# Altium footprint library hi3516dv100.PcbLib: 78 footprints (part 5 of 5)
Each footprint in its own frame and in the unit in brackets; x right, y up, seen from the top. Pads: shape width x height; smd on the part's side, far side on the other; paste and mask are expansions set on the pad; w line width, h text height; cw(c..) or ccw(c..) is an arc to the next point about the centre after c.
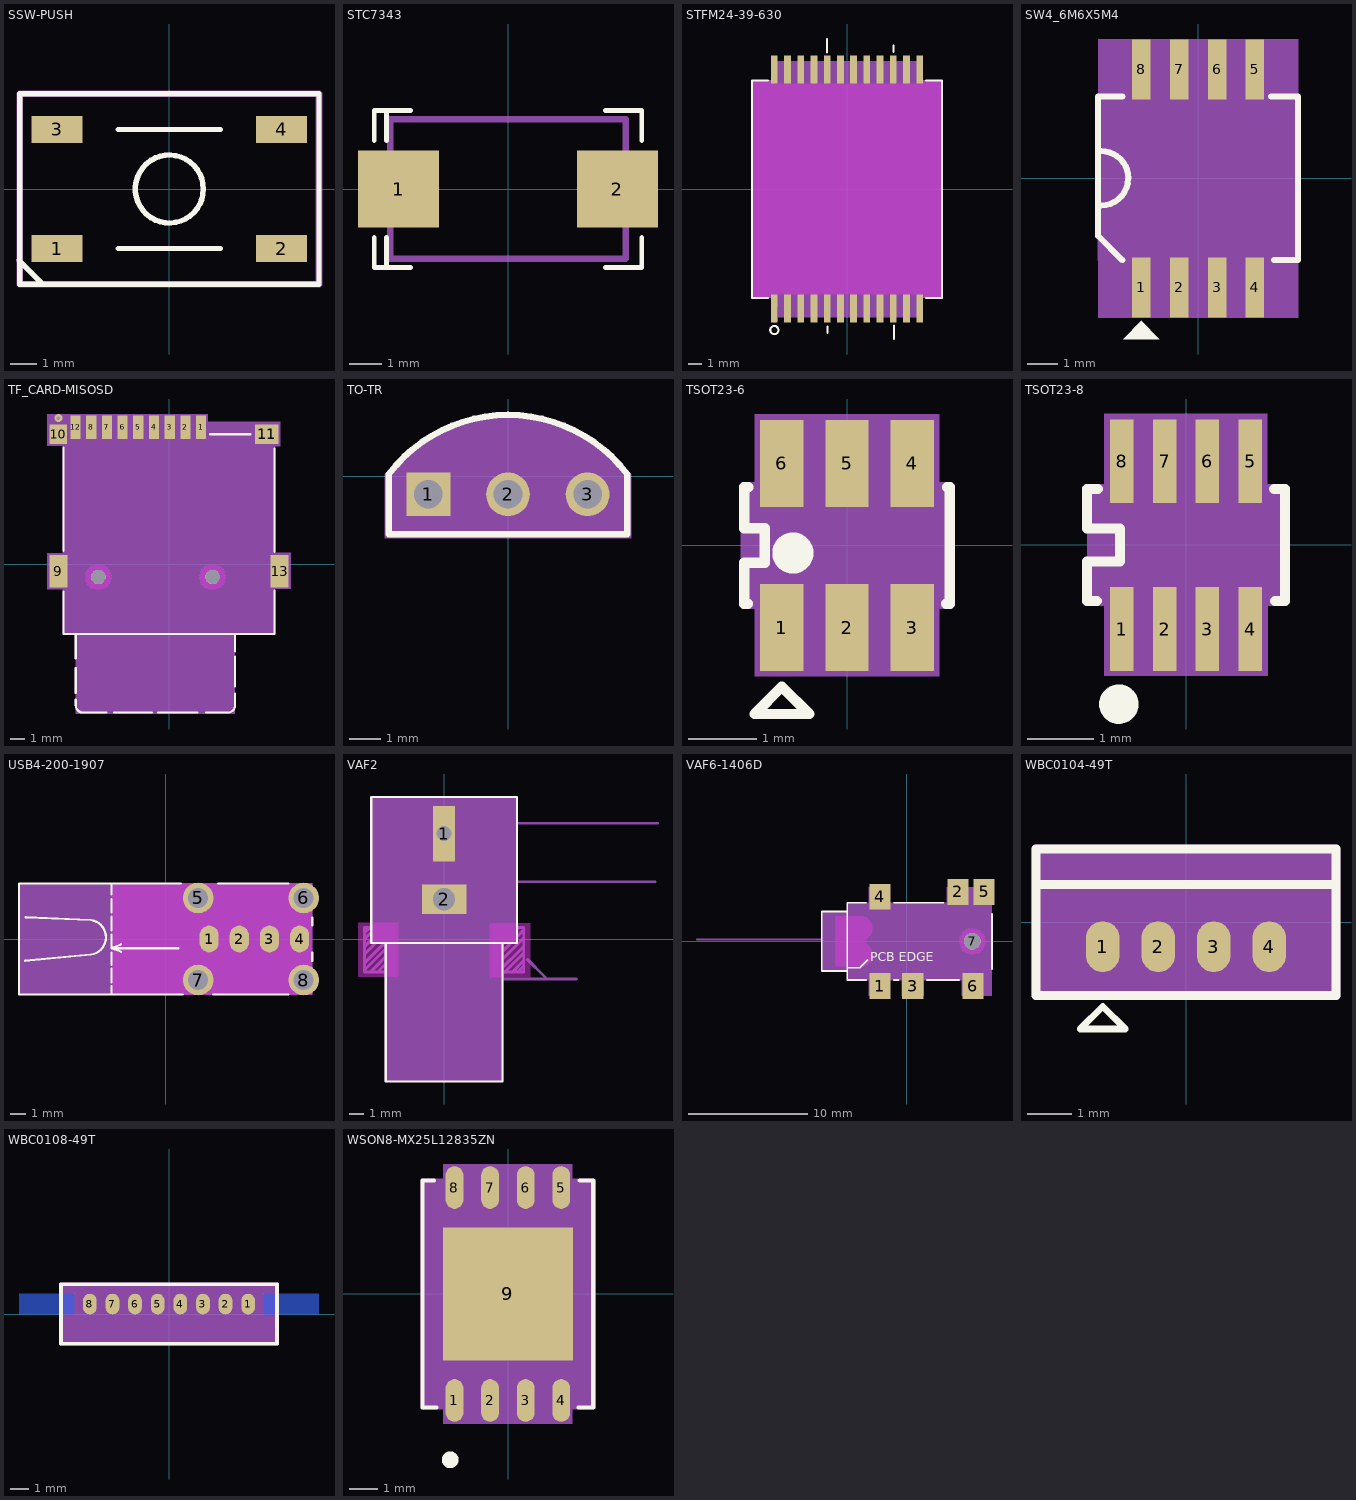
[diagram p4: the footprints below, top view; thin cyan lines are the x and y axes]

## SSW-PUSH [mil] "SSW-PUSH"
pads (4):
  rect 75x40 smd: 1(-165,-87.5) 2(165,-87.5) 3(-165,87.5) 4(165,87.5)
Top Overlay:
  circle w8: c0,0 r50
  lines w8: -221,-105 -187,-139 ; -75,-87.5 75,-87.5 ; -75,87.5 75,87.5 ; -220,-140 -220,140 220,140 220,-140 -220,-140
Mechanical 7:
  lines w1: -220,-140 220,-140 220,140 -220,140 -220,-140
  lines w10: -220,-140 -220,140 220,140 220,-140 -220,-140
Mechanical 12:
  text "4" at 161,87.5 h10
  text "3" at -169,87.5 h10
  text "1" at -169,-87.5 h10
  text "2" at 161,-87.5 h10
Mechanical 15:
  lines w1: -220,-140 220,-140 220,140 -220,140 -220,-140

## STC7343 [mil] "STC7343"
pads (2):
  rect 100x95 smd: 1(-135,0) 2(135,0)
Top Overlay:
  lines w6: -165,-60 -165,-97 -120,-97 ; -165,60 -165,97 -120,97 ; -150,-97 -150,-60 ; -150,60 -150,97 ; 120,-97 165,-97 165,-60 ; 120,97 165,97 165,60
Mechanical 7:
  lines w1: -145,-86 -145,86 145,86 145,-86 -145,-86
  lines w8: -145,-86 145,-86 145,86 -145,86 -145,-86

## STFM24-39-630 [mil] "STFM24-39-630"
pads (24):
  rect 20x82 smd: 1(-214.37,-351.68) 2(-175.39,-351.68) 3(-136.42,-351.68) 4(-97.44,-351.68) 5(-58.46,-351.68) 6(-19.49,-351.68) 7(19.49,-351.68) 8(58.46,-351.68) 9(97.44,-351.68) 10(136.42,-351.68) 11(175.39,-351.68) 12(214.37,-351.68) 13(214.37,351.68) 14(175.39,351.68) 15(136.42,351.68) 16(97.44,351.68) 17(58.46,351.68) 18(19.49,351.68) 19(-19.49,351.68) 20(-58.46,351.68) 21(-97.44,351.68) 22(-136.42,351.68) 23(-175.39,351.68) 24(-214.37,351.68)
Top Layer:
  lines w20: -214.37,-382.68 -214.37,-351.68
Top Layer keep-out:
  region: -279.53,-319.96 -279.53,319.96 -226,319.96 -226,310 226,310 226,320 226.04,319.96 228,319.96 279.53,319.96 279.53,-319.96 226,-319.96 226,-310 -226,-310 -226,-319.96
Top Overlay:
  circle w6: c-214,-415 r12
  lines w6: -233.37,-319.96 -279.53,-319.96 -279.53,319.96 -233.37,319.96 ; -59,402.64 -59,442 ; -58,-423.68 -58,-404 ; 137,403.32 137,423 ; 138,-441.36 138,-402 ; 233.37,-319.96 279.53,-319.96 279.53,319.96 233.37,319.96
Mechanical 7:
  region: -279.53,-319.96 -279.53,319.96 -222.44,319.96 -222.44,376.97 222.44,376.97 222.44,319.96 279.53,319.96 279.53,-319.96 222.44,-319.96 222.44,-376.97 -222.44,-376.97 -222.44,-319.96
Mechanical 255:
  lines w3: -25,0 25,0 ; 0,-25 0,25
3D body: height 150, standoff 0, extent -279.53,-376.97 279.53,376.97

## SW4_6M6X5M4 [mil] "SW4_6M6X5M4"
pads (8):
  rect 24x78 smd: 1(-73.82,-141.73) 2(-24.61,-141.73) 3(24.61,-141.73) 4(73.82,-141.73) 5(73.82,141.73) 6(24.61,141.73) 7(-24.61,141.73) 8(-73.82,141.73)
Top Overlay:
  dashed: -73.82,-185.04 -97.44,-208.66 -50.2,-208.66
  lines w7.87: -125.98,-35.12 ccw(c-125.99,0) -90.87,-0.31 ; -125.98,35.43 cw(c-125.98,0) -90.55,0 ; -98.43,-106.3 -129.92,-74.8 -129.92,90.55 -129.92,106.3 -98.43,106.3 ; 94.49,106.3 129.92,106.3 129.92,90.55 129.92,-106.3 98.43,-106.3
Mechanical 7:
  region: -129.92,-181.1 129.92,-181.1 129.92,181.1 -129.92,181.1
Mechanical 13:
  dashed: -129.92,-106.3 -129.92,-31.5 -55.12,-106.3
  lines w1: -129.92,-106.3 129.92,-106.3 129.92,106.3 -129.92,106.3 -129.92,-106.3
3D body: height 150, standoff 0, extent -129.92,-181.1 129.92,181.1

## TF_CARD-MISOSD [mil] "TF_CARD-MISOSD"
pads (15):
  rect 28x65 smd: 1(88.58,377.56) 2(45.28,377.56) 3(1.97,377.56) 4(-41.34,377.56) 5(-84.65,377.56) 6(-127.95,377.56) 7(-171.26,377.56) 8(-214.57,377.56) 12(-257.87,377.56)
  rect 50x90 smd: 9(-305.12,-20.08) 13(305.12,-20.08)
  rect 48x55 smd: 10(-305.12,357.87)
  rect 65x55 smd: 11(269.69,357.87)
  round 40 hole 40 unplated: ""(-194.88,-35.83) ""(120.08,-35.83)
via -305.12,402.37 diameter 22 hole 10
Top Overlay:
  lines w6: -291.34,-76.77 -291.34,-193.31 291.34,-193.31 291.34,-72.84 ; -291.34,36.61 -291.34,320.86 ; -257.09,-374.41 -257.09,-390.16 ccw(c-237.4,-390.16) -237.4,-409.85 -172.05,-409.85 ; -257.09,-355.12 -257.09,-287.4 ; -257.09,-261.03 -257.09,-193.31 ; -151.57,-409.85 -46.46,-409.85 ; -29.53,-409.85 77.95,-409.85 ; 101.97,-409.85 162.6,-409.85 ccw(c162.59,-390.16) 182.28,-390.16 182.28,-357.48 ; 113.78,357.87 224.41,357.87 ; 182.28,-338.19 182.28,-255.91 ; 182.28,-240.55 182.28,-193.31 ; 291.34,33.46 291.34,318.89
Mechanical 7:
  region: -335.83,413.78 -335.83,325.59 -292.13,325.59 -292.13,29.13 -335.83,29.13 -335.83,-69.29 -290.55,-69.29 -290.55,-193.31 -257.87,-193.31 -257.87,-413.78 181.5,-413.78 181.5,-193.7 292.13,-193.7 292.13,-68.9 335.83,-68.9 335.83,31.49 291.73,31.49 291.73,325.19 306.3,325.19 306.3,391.73 107.09,391.73 107.09,413.78
Mechanical 12:
  text "2" at 45.28,369.56 h20
  text "1" at 88.58,369.56 h20
  text "8" at -214.57,369.56 h20
  text "7" at -171.26,369.56 h20
  text "3" at 1.97,369.56 h20
  text "5" at -84.65,369.56 h20
  text "12" at -257.87,361.56 h20
  text "4" at -41.34,369.56 h20
  text "13" at 305.12,-36.08 h20
  text "6" at -127.95,369.56 h20
  text "10" at -305.12,341.87 h20
  text "11" at 269.69,341.87 h20
  text "9" at -305.12,-28.08 h20
Mechanical 13:
  lines w6: -257.09,-374.41 -257.09,-390.16 ccw(c-237.4,-390.16) -237.4,-409.85 -172.05,-409.85 ; -257.09,-355.12 -257.09,-287.4 ; -257.09,-261.03 -257.09,-193.31 ; -151.57,-409.85 -46.46,-409.85 ; -29.53,-409.85 77.95,-409.85 ; 101.97,-409.85 162.6,-409.85 ccw(c162.59,-390.16) 182.28,-390.16 182.28,-357.48 ; 182.28,-338.19 182.28,-255.91 ; 182.28,-240.55 182.28,-193.31 ; -291.34,-193.31 291.34,-193.31 291.34,357.87 -291.34,357.87 -291.34,-193.31
Multi-Layer keep-out:
  region: 120.08,-0.53 110.94,-1.73 102.43,-5.26 95.12,-10.87 89.51,-18.18 85.98,-26.69 84.78,-35.83 85.98,-44.97 89.51,-53.48 95.12,-60.79 102.43,-66.4 110.94,-69.93 120.08,-71.13 129.22,-69.93 137.73,-66.4 145.04,-60.79 150.65,-53.48 154.18,-44.97 155.38,-35.83 154.18,-26.69 150.65,-18.18 145.04,-10.87 137.73,-5.26 129.22,-1.73
  region: -194.88,-0.53 -204.02,-1.73 -212.53,-5.26 -219.84,-10.87 -225.45,-18.18 -228.98,-26.69 -230.18,-35.83 -228.98,-44.97 -225.45,-53.48 -219.84,-60.79 -212.53,-66.4 -204.02,-69.93 -194.88,-71.13 -185.74,-69.93 -177.23,-66.4 -169.92,-60.79 -164.31,-53.48 -160.78,-44.97 -159.58,-35.83 -160.78,-26.69 -164.31,-18.18 -169.92,-10.87 -177.23,-5.26 -185.74,-1.73
3D body: height 150, standoff 0, extent -335.83,-413.78 335.83,413.78

## TO-TR [mil] "TO-TR"
pads (3):
  rect 55x55 / inner round 55 / far side rect 55x55 hole 36: 1(-100,-22.96)
  round 55 / inner round 60 / far side round 55 hole 36: 2(0,-22.96) 3(100,-22.96)
Top Overlay:
  lines w8: -150,-72.96 -150,2.04 cw(c0,-111.07) 150,2.04 150,-72.96 -150,-72.96
Mechanical 7:
  region: -155,-77.96 -155,2.04 -135,22.04 -122.72,33.29 -109.51,43.43 -95.46,52.38 -80.69,60.07 -65.3,66.45 -49.41,71.45 -33.15,75.06 -16.64,77.23 0,77.96 16.64,77.23 33.15,75.06 49.41,71.45 65.3,66.45 80.69,60.07 95.46,52.38 109.51,43.43 122.72,33.29 135,22.04 155,2.04 155,-77.96
Mechanical 12:
  text "2" at 4,-22.96 h10
  text "1" at -96,-22.96 h10
  text "3" at 104,-22.96 h10
Mechanical 15:
  dashed: -155,-77.96 155,-77.96 155,2.04 135,22.04 -135,22.04 -155,2.04
3D body: height 150, standoff 0, extent -155,-77.96 155,77.96

## TSOT23-6 [mil] "TSOT23-6"
pads (6):
  rect 25x50 smd: 1(-37.4,-47.44) 2(0,-47.44) 3(37.4,-47.44) 4(37.4,47.04) 5(0,47.04) 6(-37.4,47.04)
Top Overlay:
  circle w11.81: c-31.1,-4.53 r5.9
  lines w6: -57.09,-33.66 -59.06,-33.66 -59.06,-10.04 -47.24,-10.04 -47.24,9.64 -59.06,9.64 -59.06,33.26 -56.69,33.26 ; 57.09,-33.66 59.06,-33.66 59.06,33.26 57.48,33.26 ; -53.15,-97.05 -37.4,-81.3 -21.65,-97.05 -53.15,-97.05
Mechanical 7:
  region: -61.02,35.23 -53.07,35.23 -53.07,75.39 52.95,75.39 52.95,35.23 61.02,35.23 61.02,-35.63 53.15,-35.63 53.15,-75.4 -52.99,-75.4 -52.99,-35.63 -61.02,-35.63 -61.02,-10.04 -61.02,9.64
Mechanical 13:
  lines w6: -59.06,-33.66 -59.06,-10.04 -47.24,-10.04 -47.24,9.64 -59.06,9.64 -59.06,33.26 59.06,33.26 59.06,-33.66 -59.06,-33.66
3D body: height 150, standoff 0, extent -61.02,-75.4 61.02,75.39

## TSOT23-8 [mil] "TSOT23-8"
pads (8):
  rect 14x50 smd: 1(-38.39,-50.28) 2(-12.8,-50.28) 3(12.8,-50.28) 4(38.39,-50.28) 5(38.39,50.12) 6(12.8,50.12) 7(-12.8,50.12) 8(-38.39,50.12)
Top Overlay:
  circle w11.81: c-40.16,-95.16 r5.91
  lines w6: -53.22,-33.54 -59.06,-33.54 -59.06,-9.92 -39.37,-9.92 -39.37,9.76 -59.06,9.76 -59.06,33.38 -52.59,33.38 ; 52.73,33.38 59.06,33.38 59.06,-33.54 53.36,-33.54
Mechanical 7:
  region: -59.06,33.38 -48.82,33.38 -48.82,78.27 48.46,78.27 48.46,33.38 59.06,33.38 59.06,-33.54 48.9,-33.54 48.9,-78.27 -48.78,-78.27 -48.78,-33.54 -59.06,-33.54 -59.06,-13.07 -59.06,9.72 -59.06,9.76
Mechanical 16:
  lines w6: -59.06,-33.54 -59.06,-9.92 -39.37,-9.92 -39.37,9.76 -59.06,9.76 -59.06,33.38 59.06,33.38 59.06,-33.54 -59.06,-33.54
3D body: height 150, standoff 0, extent -59.06,-78.27 59.06,78.27

## USB4-200-1907 [mil] "USB4-200-1907"
pads (8):
  oval 50x70 / inner round 60 / far side oval 50x70 all layers, no hole: 1(113.78,0) 2(192.52,0) 3(271.26,0)
  oval 50x70 all layers, no hole: 4(350,0)
  round 80 hole 52: 5(85.04,107.09) 6(360.63,107.09) 7(85.04,-107.09) 8(360.63,-107.09)
Top Layer keep-out:
  region: -141.24,145.22 -141.24,-145.08 382.87,-145.08 382.87,145.22
Top Overlay:
  lines w6: -367.43,-56.76 -195.01,-40.59 ccw(c-201.18,4.41) -195.01,49.41 -365.27,56.91 ; -141.34,-145.08 -141.34,-123 ; -141.34,-113 -141.34,-77 ; -141.34,-67 -141.34,-36 ; -141.34,11 -141.34,-24 ; -141.34,23 -141.34,58 ; -141.34,70 -141.34,104 ; -141.34,117 -141.34,145.08 ; -116.22,-33 -141.34,-24 ; -116.22,-14 -141.34,-24 ; 33.78,-24 -141.34,-24 ; 39.78,145.08 -382.87,145.08 -382.87,-145.08 44.78,-145.08 ; 123.78,-145.08 320.78,-145.08 ; 137.78,145.08 320.78,145.08 ; 382.87,-57 382.87,-35 ; 382.87,36 382.87,56
Mechanical 7:
  region: -382.87,-145.08 382.87,-145.08 382.87,145.08 -382.87,145.08
Mechanical 12:
  text "1" at 113.78,0 h0.01
  text "3" at 271.26,0 h0.01
  text "2" at 192.52,0 h0.01
  text "8" at 360.63,-107.09 h0.01
  text "7" at 85.04,-107.09 h0.01
  text "6" at 360.63,107.09 h0.01
  text "5" at 85.04,107.09 h0.01
  text "4" at 350,0 h0.01
Mechanical 255:
  lines w3: 88.78,0 138.78,0 ; 113.78,-25 113.78,25
3D body: height 150, standoff 0, extent -382.87,-145.08 382.87,145.08

## VAF2 [mil] "VAF2"
pads (2):
  rect 60x150 / inner round 60 / far side rect 60x150 hole 40: 1(0,284.52)
  rect 120x80 hole 60: 2(0,107.52)
Top Overlay:
  lines w6: -157.48,-10.59 -157.48,-384.61 157.48,-384.61 157.48,-10.59 ; -196.85,-10.59 196.85,-10.59 196.85,383.11 163.39,383.11 -196.85,383.11 -196.85,-10.59
  text "AV_84_5Y_HW" at 0,107.52 h0.01
Mechanical 2:
  lines w6: 0,107.52 47.24,154.76 570.65,154.47 ; 0,265 39.37,312.24 577.37,312.46 ; -50,77.52 50,77.52 50,137.52 -50,137.52 -50,77.52 ; -20,224.52 20,224.52 20,344.52 -20,344.52 -20,224.52
  lines w8: -215.45,-41.6 -144.31,29.53 ; -215.23,-0.98 -184.48,29.77 ; -214.32,-64.29 -141.25,8.78 ; -213.41,17.4 -203.42,27.38 ; -213.18,-82.22 -140.68,-9.72 ; -212.96,-18.23 -165.19,29.54 ; -199.57,-89.48 -139.66,-29.58 ; -179.83,-88.8 -139.89,-48.86 ; -158.5,-89.48 -141.93,-72.91 ; -122.39,-60.32 -74.98,-107.72 357.06,-107.72 ; 139.46,-72.68 213.43,1.29 ; 139.68,-31.62 196.64,25.34 ; 139.91,10.82 158.06,28.97 ; 140.81,-50.46 215.25,23.98 ; 141.72,-11.42 178.03,24.89 ; 146.48,-88.35 213.44,-21.39 ; 162.83,-89.93 213.88,-38.88 ; 185.06,-88.12 212.86,-60.32 ; 199.36,-88.12 212.98,-74.5 ; 224.67,-54.95 272.08,-102.36 ; -215,-89.48 -140,-89.48 -140,30.52 -215,30.52 -215,-89.48 ; 140,-89.48 140,30.52 215,30.52 215,-89.48 140,-89.48
  text "REC VIA 40X120MIL" at 108.08,324 h25
  text "REC VIA 100X60MIL" at 102.32,167.6 h25
  text "Open Window:75X120mil" at 284.48,-88.84 h25
Mechanical 7:
  region: 195,-10 195,385 -195,385 -195,-10 -160,-10 -160,-385 160,-385 160,-10
Mechanical 12:
  text "1" at 0,284.52 h0.01
  text "2" at 0,107.52 h0.01
Multi-Layer keep-out:
  region: 123.43,42.94 123.43,-102.84 232.39,-102.84 232.39,42.94
  region: -232.37,44.24 -232.37,-101.54 -123.4,-101.54 -123.4,44.24
Mechanical 255:
  lines w3: -25,107.52 25,107.52 ; 0,82.52 0,132.52
3D body: height 150, standoff 0, extent -195,-385 195,385

## VAF6-1406D [mil] "VAF6-1406D"
pads (7):
  rect 70x85 smd: 1(-88.58,-147.64) 2(169.29,163.39) 3(19.69,-147.64) 4(-88.58,147.64) 5(255.91,163.39) 6(218.5,-147.64)
  round 55 / inner round 60 / far side round 55 hole 55 unplated: 7(216.54,0)
Top Overlay:
  lines w6: -196.85,-102.36 -196.85,73 -196.85,102.36 ; -195.46,-86.94 -155.73,-86.94 -129.4,-60.6 ; -134.65,-127.95 -196.85,-127.95 -196.85,-98.43 -281.5,-98.43 -281.5,98.43 -196.85,98.43 -196.85,127.95 -134.65,127.95 ; -42.52,127.95 122.05,127.95 ; -42.13,-127.95 -26.38,-127.95 ; 65.75,-127.95 172.44,-127.95 ; 281.5,-91.34 281.5,91.34
  text "PCB EDGE" at -121.18,-66.22 h30
Mechanical 2:
  lines w6: -693.86,5.73 -220.13,5.73 ; -244.24,-10.72 -220.13,5.73 ; -243.14,22.81 -220.13,5.73 ; -112.62,31.09 -128.12,43.1 ; -111.87,55.47 -128.12,43.1 ; 136.66,43.14 134.69,43.1 -128.12,43.1 ; -216.54,-62.99 -216.54,62.99 -153.54,62.99 cw(c-153.54,42.99) -153.54,22.99 -153.54,-22.99 cw(c-153.54,-42.99) -153.54,-62.99 -216.54,-62.99
  text "2-R:20mil" at -104.43,53.78 h36
  text "OPEN WINDOW:63x126mil" at -875.24,18.33 h36
Mechanical 7:
  region: 281.5,179.13 281.5,-179.13 181.27,-179.13 181.27,-127.95 56.01,-127.95 56.01,-179.13 -16.36,-179.13 -16.36,-127.95 -70.21,-127.95 -70.21,-179.13 -125.98,-179.13 -125.98,-127.95 -196.85,-127.95 -196.85,-98.43 -281.5,-98.43 -281.5,98.43 -196.85,98.43 -196.85,127.95 -125.98,127.95 -125.98,179.13 -70.67,179.13 -70.67,127.95 131.86,127.95 131.86,179.13
Mechanical 12:
  text "4" at -88.58,147.64 h0.01
  text "1" at -88.58,-147.64 h0.01
  text "3" at 19.69,-147.64 h0.01
  text "2" at 169.29,163.39 h0.01
  text "6" at 218.5,-147.64 h0.01
  text "7" at 216.54,0 h0.01
  text "5" at 255.91,163.39 h0.01
Multi-Layer keep-out:
  region: 259.41,0 257.95,11.09 253.66,21.43 246.85,30.31 237.97,37.12 227.63,41.41 216.54,42.87 205.45,41.41 195.11,37.12 186.23,30.31 179.42,21.43 175.13,11.09 173.67,0 175.13,-11.09 179.42,-21.43 186.23,-30.31 195.11,-37.12 205.45,-41.41 216.54,-42.87 227.63,-41.41 237.97,-37.12 246.85,-30.31 253.66,-21.43 257.95,-11.09
  region: -236.54,-82.99 -236.54,82.99 -153.54,82.99 -150.05,82.84 -146.59,82.38 -143.19,81.63 -139.86,80.58 -136.64,79.24 -133.54,77.63 -130.6,75.76 -127.83,73.63 -125.26,71.27 -122.9,68.7 -120.77,65.93 -118.9,62.99 -117.29,59.89 -115.95,56.67 -114.9,53.34 -114.15,49.94 -113.69,46.48 -113.54,42.99 -113.69,39.5 -114.15,36.04 -114.9,32.64 -115.95,29.31 -117.29,26.09 -118.9,22.99 -120.77,20.05 -122.9,17.28 -125.26,14.71 -127.83,12.35 -130.6,10.22 -133.54,8.35 -133.54,-8.35 -130.6,-10.22 -127.83,-12.35 -125.26,-14.71 -122.9,-17.28 -120.77,-20.05 -118.9,-22.99 -117.29,-26.09 -115.95,-29.31 -114.9,-32.64 -114.15,-36.04 -113.69,-39.5 -113.54,-42.99 -113.69,-46.48 -114.15,-49.94 -114.9,-53.34 -115.95,-56.67 -117.29,-59.9 -118.9,-62.99 -120.77,-65.93 -122.9,-68.7 -125.26,-71.27 -127.83,-73.63 -130.6,-75.76 -133.54,-77.63 -136.64,-79.24 -139.86,-80.58 -143.19,-81.63 -146.59,-82.38 -150.05,-82.84 -153.54,-82.99
Mechanical 255:
  lines w3: -25,0 25,0 ; 0,-25 0,25
3D body: height 150, standoff 0, extent -281.5,-179.13 281.5,179.13

## WBC0104-49T [mil] "WBC0104-49T"
pads (4):
  oval 30x45 all layers, no hole: 1(-73.82,-21.65)
  oval 30x45 / inner round 60 / far side oval 30x45 all layers, no hole: 2(-24.61,-21.65) 3(24.61,-21.65) 4(73.82,-21.65)
Top Overlay:
  lines w6: -93.82,-94.65 -53.82,-94.65 -73.82,-74.65 -93.82,-94.65
  lines w8: -133,33.47 133,33.47 ; 29.53,-64.96 133,-64.96 133,64.96 -133,64.96 -133,-64.96 88.58,-64.96
Mechanical 7:
  region: -133,-64.96 133,-64.96 133,64.96 -133,64.96
  lines w8: -133,-64.96 -133,64.96 133,64.96 133,-64.96 -133,-64.96
Mechanical 12:
  text "2" at -24.61,-17.65 h10
  text "3" at 24.61,-17.65 h10
  text "1" at -73.82,-17.65 h10
  text "4" at 73.82,-17.65 h10
3D body: height 150, standoff 0, extent -133,-64.96 133,64.96

## WBC0108-49T [mil] "WBC0108-49T"
pads (8):
  oval 30x45 / inner round 60 / far side oval 30x45 all layers, no hole: 1(172.24,21.65) 2(123.03,21.65) 3(73.81,21.65) 4(24.6,21.65) 5(-24.61,21.65) 6(-73.82,21.65) 7(-123.04,21.65)
  oval 30x45 all layers, no hole: 8(-172.25,21.65)
Bottom Layer:
  region: -206.46,44.15 -206.46,-0.85 -326.46,-0.85 -326.46,44.15
  region: 326.45,44.15 326.45,-0.85 206.45,-0.85 206.45,44.15
Top Overlay:
  lines w8: -88.58,64.96 235,64.96 235,-64.96 -235,-64.96 -235,64.96 -29.53,64.96
Bottom Solder:
  dashed: -206.46,44.15 -206.46,-0.85 -326.46,-0.85 -326.46,44.15
  dashed: 326.45,44.15 326.45,-0.85 206.45,-0.85 206.45,44.15
Mechanical 8:
  region: 235,64.96 235,-64.96 -235,-64.96 -235,64.96
  lines w8: -235,-64.96 235,-64.96 235,64.96 -235,64.96 -235,-64.96
Mechanical 12:
  text "2" at 119.03,21.65 h10
  text "1" at 168.24,21.65 h10
  text "8" at -176.25,21.65 h10
  text "6" at -77.82,21.65 h10
  text "4" at 20.6,21.65 h10
  text "7" at -127.04,21.65 h10
  text "5" at -28.61,21.65 h10
  text "3" at 69.81,21.65 h10
3D body: height 150, standoff 0, extent -235,-64.96 235,64.96

## WSON8-MX25L12835ZN [mil] "WSON8-MX25L12835ZN"
pads (9):
  oval 25x60 smd: 1(-75.39,-149.61) 2(-25.39,-149.61) 3(24.61,-149.61) 4(74.61,-149.61) 5(74.61,149.61) 6(24.61,149.61) 7(-25.39,149.61) 8(-75.39,149.61)
  rect 183x187 smd: 9(-0.39,0)
Top Overlay:
  circle w11.81: c-81.37,-233.03 r5.9
  lines w6: -104.13,159.45 -120.47,159.45 -120.47,-159.45 -100.65,-159.45 ; 99,-159.45 119.69,-159.45 119.69,159.45 100.74,159.45
Mechanical 7:
  region: 90.16,160.24 90.16,179.13 90.16,182.68 -91.33,182.68 -91.33,172.05 -91.33,159.84 -118.5,159.84 -120.08,159.84 -120.08,-159.06 -91.33,-159.06 -91.33,-179.13 -91.33,-182.68 90.16,-182.68 90.16,-168.9 90.16,-159.84 117.72,-159.84 120.08,-159.84 120.08,160.24
Mechanical 16:
  lines w6: -120.47,-159.45 -120.47,159.45 119.69,159.45 119.69,-159.45 -120.47,-159.45
3D body: height 150, standoff 0, extent -120.08,-182.68 120.08,182.68